# EAGLE library part ASMT-YTB7-0AA02_RGB (library df4iah_led)
Broadcom ASMT-YTB7-0AA02 Tricolor PLCC6 Black Surface LED
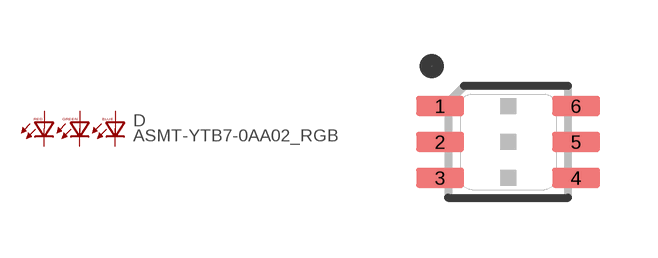
[diagram p25: symbol with the pads of ASMT-YTB7_0AA02_RGB; footprint ASMT-YTB7_0AA02_RGB]

Designator prefix D

## ASMT-YTB7-0AA02_RGB  [ASMT-YTB7_0AA02_RGB]
1  BC  pas
2  GC  pas
3  RC  pas
4  RA  pas
5  GA  pas
6  BA  pas

## Footprint ASMT-YTB7_0AA02_RGB (pad centres in mm)
Broadcom ASMT-YTB7-0AA02 Tricolor PLCC6 Black Surface LED
smd 1.2 x 0.5: 1 -1.7,0.9; 2 -1.7,0; 3 -1.7,-0.9; 4 1.7,-0.9; 5 1.7,0; 6 1.7,0.9